# Altium footprint library SM_RADIAL_G.PCBLIB: 1 footprints
Each footprint in its own frame and in the unit in brackets; x right, y up, seen from the top. Pads: shape width x height; smd on the part's side, far side on the other; paste and mask are expansions set on the pad; w line width, h text height; cw(c..) or ccw(c..) is an arc to the next point about the centre after c.
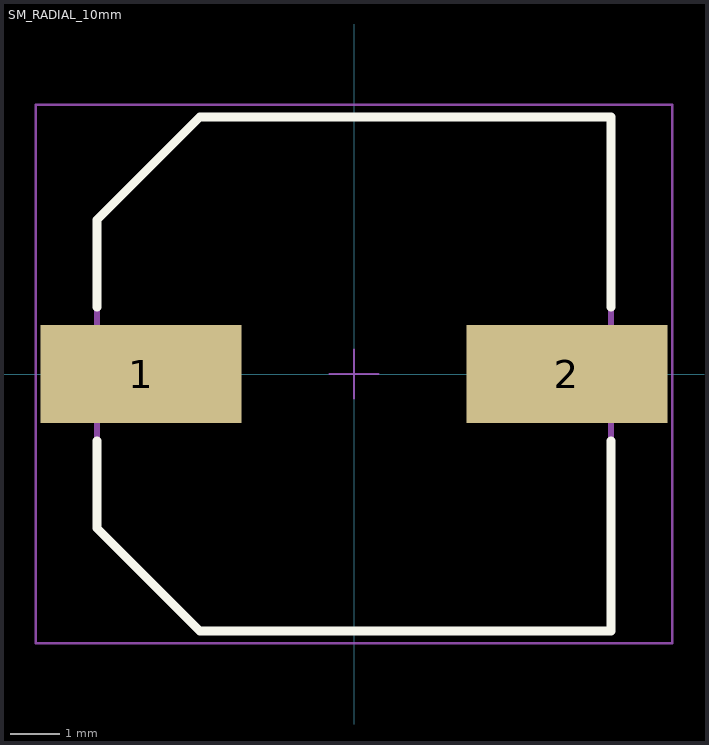
[diagram p0: the footprint, top view; thin cyan lines are the x and y axes]

## SM_RADIAL_10mm [mm] "10 x 10.2mm:  Panasonic G"
height 10.5
pads (2):
  rect 4.1x2 smd: 1(-4.35,0) 2(4.35,0)
Top Overlay:
  lines w0.178: -5.25,-1.362 -5.25,-3.15 -3.15,-5.25 5.251,-5.25 ; -5.25,1.362 -5.25,3.15 -3.15,5.25 5.251,5.25 ; 5.25,-5.253 5.25,-1.366 ; 5.25,1.366 5.25,5.253
Top Assembly:
  lines w0.127: 5.25,-5.25 5.25,5.253 ; 5.251,-5.25 -3.15,-5.25 -5.25,-3.15 -5.25,3.15 -3.15,5.25 5.251,5.25
Top Courtyard:
  lines w0.05: -6.5,-5.5 -6.5,5.5 6.5,5.5 6.5,-5.5 -6.5,-5.5
Top Designator:
  text ".Designator" at -1.7,-0.5 h1.02
Top Component Center:
  lines w0.05: -0.5,0 0.5,0 ; 0,-0.5 0,0.5
3D body: height 0.6, standoff 0, extent -5.251,-5.253 5.252,5.253
3D body: height 10.5, standoff 0.1, extent -5.249,-5.249 5.249,5.249
3D body: height 10.5, standoff 10.4, extent 1.642,-4.835 5.106,4.835